# Altium footprint library JSR26C31.PcbLib: 1 footprints
Each footprint in its own frame and in the unit in brackets; x right, y up, seen from the top. Pads: shape width x height; smd on the part's side, far side on the other; paste and mask are expansions set on the pad; w line width, h text height; cw(c..) or ccw(c..) is an arc to the next point about the centre after c.
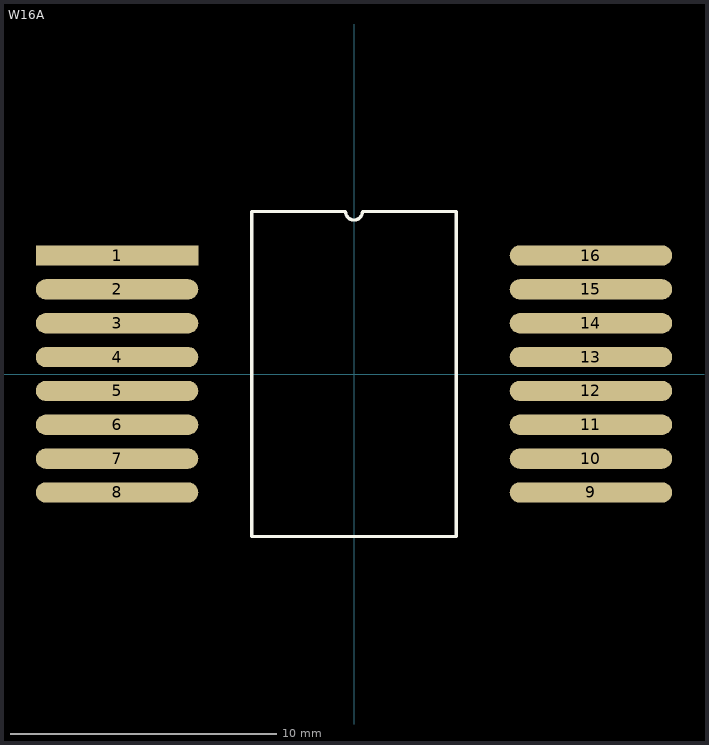
[diagram p0: the footprint, top view; thin cyan lines are the x and y axes]

## W16A [mil]
pads (16):
  rect 240x30 smd: 1(-350,175)
  oval 240x30 smd: 2(-350,125) 3(-350,75) 4(-350,25) 5(-350,-25) 6(-350,-75) 7(-350,-125) 8(-350,-175) 9(350,-175) 10(350,-125) 11(350,-75) 12(350,-25) 13(350,25) 14(350,75) 15(350,125) 16(350,175)
Top Overlay:
  lines w5: -150.98,-240 150.98,-240 ; -150.98,-239.37 -150.98,239.37 ; -150.98,240 -12.5,240 ccw(c0,240) 12.5,240 150.98,240 ; 150.98,-239.37 150.98,239.37